# EAGLE library part BLLP412S (library BLLP412S)
12 postion female double row connectors ,stamped contact spring (fork contact) .125 V AC ,3 A ,2.54 pitch ,gold-plated ,THT (soldering). Source: Datasheet <https://www.fischerelektronik.de/web_fischer/en_GB/VA/BLLP412S/datasheet.xhtml>
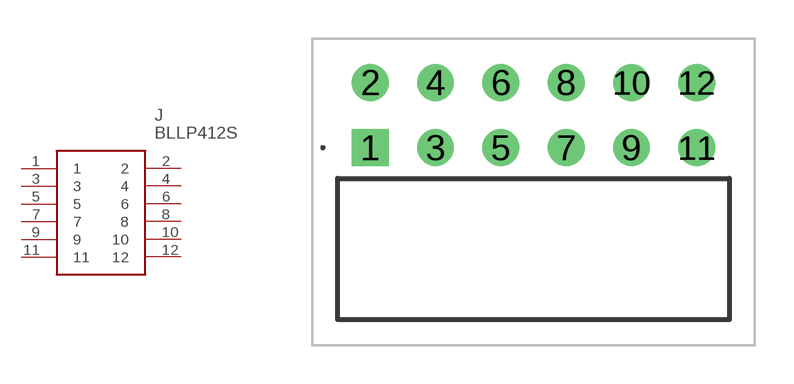
[diagram p0: symbol with the pads of BLLP412S; footprint BLLP412S]

Designator prefix J

## BLLP412S (Description: 12 postion female double row connectors ,stamped contact spring (fork contact) .125 V AC ,3 A ,2.54 pitch ,gold-plated ,THT (soldering).; Height: 5mm; Manufacturer_Name: Fischer Elektronik GmbH & Co. KG; Manufacturer_Part_Number: BLLP412S)  [BLLP412S]
1  1
2  2
3  3
4  4
5  5
6  6
7  7
8  8
9  9
10  10
11  11
12  12

## Footprint BLLP412S (pad centres in mm)
BLLP412S
drill 0.92 pad 1.431 square: 1 0,0
drill 0.92 pad 1.431: 2 0,2.54; 3 2.54,0; 4 2.54,2.54; 5 5.08,0; 6 5.08,2.54; 7 7.62,0; 8 7.62,2.54; 9 10.16,0; 10 10.16,2.54; 11 12.7,0; 12 12.7,2.54